# Altium schematic symbol library my_lib.SchLib: 3 symbols
Pins are listed as number, name and electrical type; pins without a type are passive.

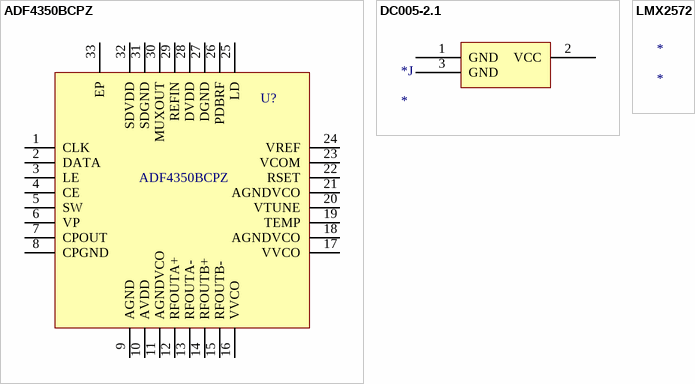
[diagram p0: symbols ADF4350BCPZ to LMX2572]

## ADF4350BCPZ
designator U?
Partname: IC-频率合成器; Partnumber: 301010321; Class: 固定材料; Spec: ADF4350BCPZ,LFCSP-32,I级,AD; Unit: pcs; Grade: *; Manufacturet: *
footprint QFN50P500X500X100_HS-33L (QFN, 32-Leads, Body 5.00x5.00mm, Pitch 0.50mm, Thermal Pad 3.10x3.10mm, IPC High Density)
pins: 1 CLK, 2 DATA, 3 LE, 4 CE, 5 SW, 6 VP, 7 CPOUT, 8 CPGND, 9 AGND, 10 AVDD, 11 AGNDVCO, 12 RFOUTA+, 13 RFOUTA-, 14 RFOUTB+, 15 RFOUTB-, 16 VVCO, 17 VVCO, 18 AGNDVCO, 19 TEMP, 20 VTUNE, 21 AGNDVCO, 22 RSET, 23 VCOM, 24 VREF, 25 LD, 26 PDBRF, 27 DGND, 28 DVDD, 29 REFIN, 30 MUXOUT, 31 SDGND, 32 SDVDD, 33 EP

## DC005-2.1
designator *J
footprint DC005
pins: 1 GND, 2 VCC, 3 GND

## LMX2572
designator *